# Altium schematic symbol library Oscillator.SchLib: 121 symbols (part 2 of 2)
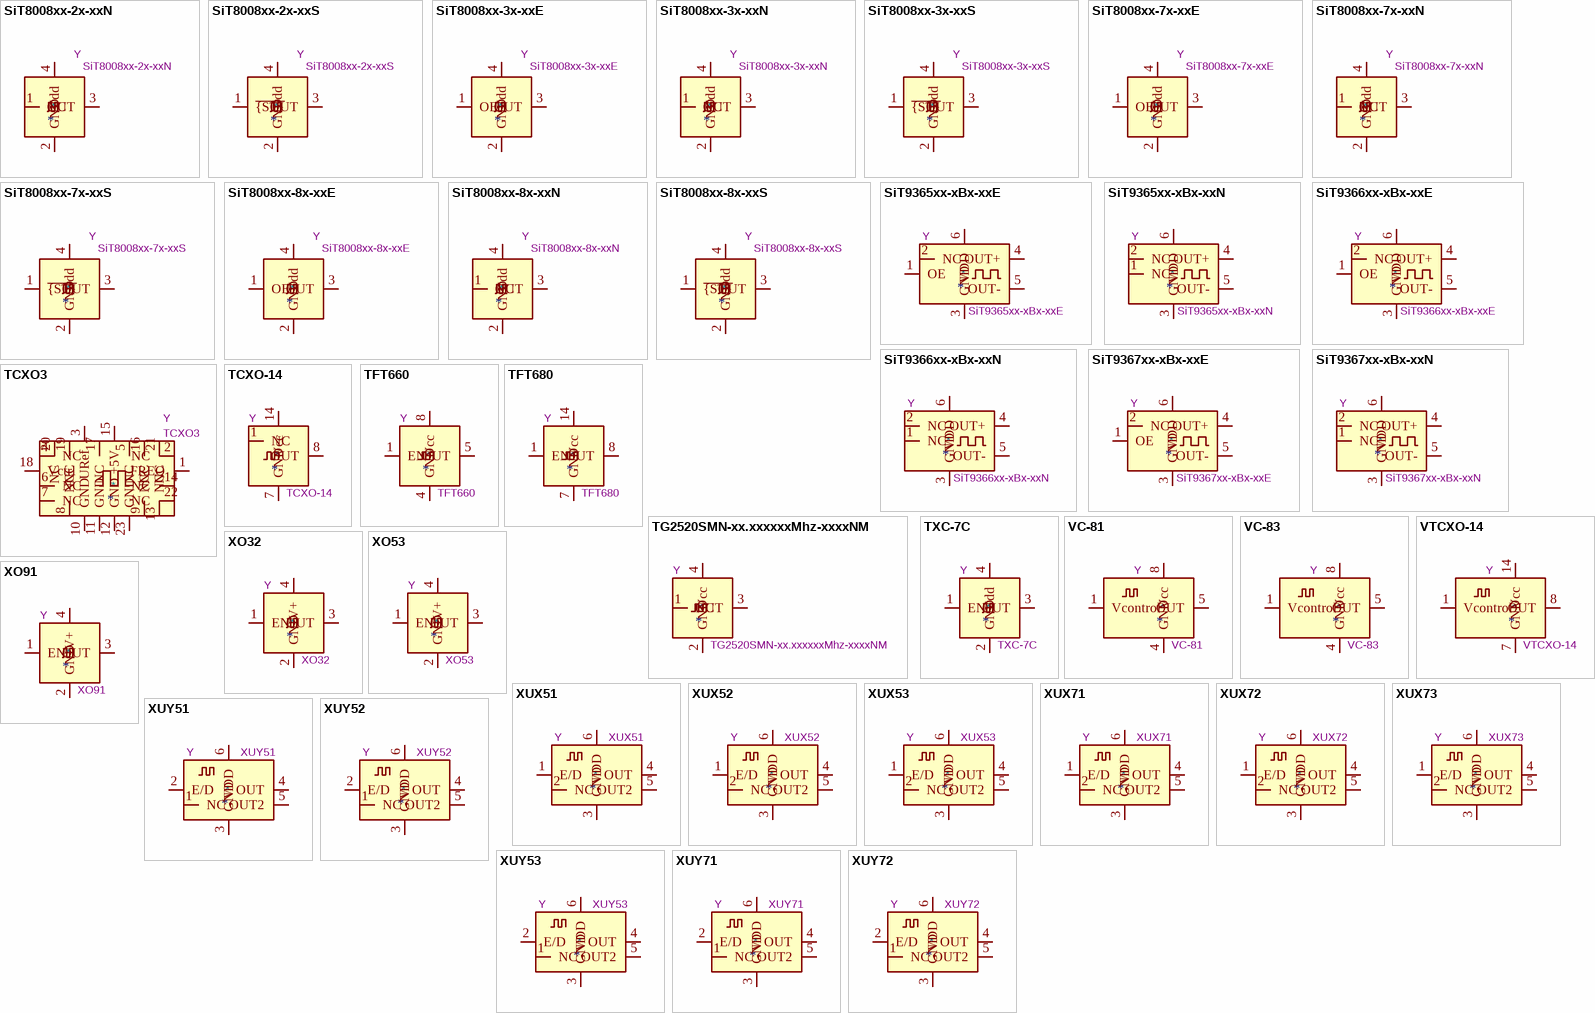
[diagram p4: symbols SiT8008xx-2x-xxN to XUY72]

## XO53
designator *  value XO53  Reference: Y
Low Power Consumption Clock Oscillator; ki_keywords: Crystal Clock Oscillator; ki_fp_filters: Oscillator*SMD*EuroQuartz*XO53*5.0x3.2mm*; Footprint: Oscillator:Oscillator_SMD_EuroQuartz_XO53-4Pin_5.0x3.2mm; Datasheet: http://cdn-reichelt.de/documents/datenblatt/B400/XO53.pdf; Description_: Low Power Consumption Clock Oscillator
pins: 1 EN, 2 GND, 3 OUT, 4 V+

## XO91
designator *  value XO91  Reference: Y
HCMOS Clock Oscillator; ki_keywords: Crystal Clock Oscillator; ki_fp_filters: Oscillator*SMD*EuroQuartz*XO91*7.0x5.0mm*; Footprint: Oscillator:Oscillator_SMD_EuroQuartz_XO91-4Pin_7.0x5.0mm; Datasheet: http://cdn-reichelt.de/documents/datenblatt/B400/XO91.pdf; Description_: HCMOS Clock Oscillator
pins: 1 EN, 2 GND, 3 OUT, 4 V+

## XUX51
designator *  value XUX51  Reference: Y
Low phase noise, quartz-based PLL oscillator, 0.016-1500 MHz, complementary output; ki_keywords: OTP XHCMOS 1.8V VCXO; ki_fp_filters: Oscillator*JS6*; Footprint: Oscillator:Oscillator_SMD_IDT_JS6-6_5.0x3.2mm_P1.27mm; Datasheet: https://www.renesas.com/us/en/document/dst/xu-family-low-phase-noise-quartz-based-pll-oscillators-datasheet; Description_: Low phase noise, quartz-based PLL oscillator, 0.016-1500 MHz, complementary output
pins: 1 E/D, 2 NC, 3 GND, 4 OUT, 5 OUT2, 6 VDD

## XUX52
designator *  value XUX52  Reference: Y
Low phase noise, quartz-based PLL oscillator, 0.016-1500 MHz, complementary output; ki_keywords: OTP XHCMOS 2.5V VCXO; ki_fp_filters: Oscillator*JS6*; Footprint: Oscillator:Oscillator_SMD_IDT_JS6-6_5.0x3.2mm_P1.27mm; Datasheet: https://www.renesas.com/us/en/document/dst/xu-family-low-phase-noise-quartz-based-pll-oscillators-datasheet; Description_: Low phase noise, quartz-based PLL oscillator, 0.016-1500 MHz, complementary output
pins: 1 E/D, 2 NC, 3 GND, 4 OUT, 5 OUT2, 6 VDD

## XUX53
designator *  value XUX53  Reference: Y
Low phase noise, quartz-based PLL oscillator, 0.016-1500 MHz, complementary output; ki_keywords: OTP XHCMOS 3.3V VCXO; ki_fp_filters: Oscillator*JS6*; Footprint: Oscillator:Oscillator_SMD_IDT_JS6-6_5.0x3.2mm_P1.27mm; Datasheet: https://www.renesas.com/us/en/document/dst/xu-family-low-phase-noise-quartz-based-pll-oscillators-datasheet; Description_: Low phase noise, quartz-based PLL oscillator, 0.016-1500 MHz, complementary output
pins: 1 E/D, 2 NC, 3 GND, 4 OUT, 5 OUT2, 6 VDD

## XUX71
designator *  value XUX71  Reference: Y
Low phase noise, quartz-based PLL oscillator, 0.016-1500 MHz, complementary output; ki_keywords: OTP XHCMOS 1.8V VCXO; ki_fp_filters: Oscillator*JU6*; Footprint: Oscillator:Oscillator_SMD_IDT_JU6-6_7.0x5.0mm_P2.54mm; Datasheet: https://www.renesas.com/us/en/document/dst/xu-family-low-phase-noise-quartz-based-pll-oscillators-datasheet; Description_: Low phase noise, quartz-based PLL oscillator, 0.016-1500 MHz, complementary output
pins: 1 E/D, 2 NC, 3 GND, 4 OUT, 5 OUT2, 6 VDD

## XUX72
designator *  value XUX72  Reference: Y
Low phase noise, quartz-based PLL oscillator, 0.016-1500 MHz, complementary output; ki_keywords: OTP XHCMOS 2.5V VCXO; ki_fp_filters: Oscillator*JU6*; Footprint: Oscillator:Oscillator_SMD_IDT_JU6-6_7.0x5.0mm_P2.54mm; Datasheet: https://www.renesas.com/us/en/document/dst/xu-family-low-phase-noise-quartz-based-pll-oscillators-datasheet; Description_: Low phase noise, quartz-based PLL oscillator, 0.016-1500 MHz, complementary output
pins: 1 E/D, 2 NC, 3 GND, 4 OUT, 5 OUT2, 6 VDD

## XUX73
designator *  value XUX73  Reference: Y
Low phase noise, quartz-based PLL oscillator, 0.016-1500 MHz, complementary output; ki_keywords: OTP XHCMOS 3.3V VCXO; ki_fp_filters: Oscillator*JU6*; Footprint: Oscillator:Oscillator_SMD_IDT_JU6-6_7.0x5.0mm_P2.54mm; Datasheet: https://www.renesas.com/us/en/document/dst/xu-family-low-phase-noise-quartz-based-pll-oscillators-datasheet; Description_: Low phase noise, quartz-based PLL oscillator, 0.016-1500 MHz, complementary output
pins: 1 E/D, 2 NC, 3 GND, 4 OUT, 5 OUT2, 6 VDD

## XUY51
designator *  value XUY51  Reference: Y
Low phase noise, quartz-based PLL oscillator, 0.016-1500 MHz, complementary output; ki_keywords: OTP HCMOS 1.8V VCXO; ki_fp_filters: Oscillator*JS6*; Footprint: Oscillator:Oscillator_SMD_IDT_JS6-6_5.0x3.2mm_P1.27mm; Datasheet: https://www.renesas.com/us/en/document/dst/xu-family-low-phase-noise-quartz-based-pll-oscillators-datasheet; Description_: Low phase noise, quartz-based PLL oscillator, 0.016-1500 MHz, complementary output
pins: 1 NC, 2 E/D, 3 GND, 4 OUT, 5 OUT2, 6 VDD

## XUY52
designator *  value XUY52  Reference: Y
Low phase noise, quartz-based PLL oscillator, 0.016-1500 MHz, complementary output; ki_keywords: OTP XHCMOS 2.5V VCXO; ki_fp_filters: Oscillator*JS6*; Footprint: Oscillator:Oscillator_SMD_IDT_JS6-6_5.0x3.2mm_P1.27mm; Datasheet: https://www.renesas.com/us/en/document/dst/xu-family-low-phase-noise-quartz-based-pll-oscillators-datasheet; Description_: Low phase noise, quartz-based PLL oscillator, 0.016-1500 MHz, complementary output
pins: 1 NC, 2 E/D, 3 GND, 4 OUT, 5 OUT2, 6 VDD

## XUY53
designator *  value XUY53  Reference: Y
Low phase noise, quartz-based PLL oscillator, 0.016-1500 MHz, complementary output; ki_keywords: OTP XHCMOS 3.3V VCXO; ki_fp_filters: Oscillator*JS6*; Footprint: Oscillator:Oscillator_SMD_IDT_JS6-6_5.0x3.2mm_P1.27mm; Datasheet: https://www.renesas.com/us/en/document/dst/xu-family-low-phase-noise-quartz-based-pll-oscillators-datasheet; Description_: Low phase noise, quartz-based PLL oscillator, 0.016-1500 MHz, complementary output
pins: 1 NC, 2 E/D, 3 GND, 4 OUT, 5 OUT2, 6 VDD

## XUY71
designator *  value XUY71  Reference: Y
Low phase noise, quartz-based PLL oscillator, 0.016-1500 MHz, complementary output; ki_keywords: OTP HCMOS 1.8V VCXO; ki_fp_filters: Oscillator*JU6*; Footprint: Oscillator:Oscillator_SMD_IDT_JU6-6_7.0x5.0mm_P2.54mm; Datasheet: https://www.renesas.com/us/en/document/dst/xu-family-low-phase-noise-quartz-based-pll-oscillators-datasheet; Description_: Low phase noise, quartz-based PLL oscillator, 0.016-1500 MHz, complementary output
pins: 1 NC, 2 E/D, 3 GND, 4 OUT, 5 OUT2, 6 VDD

## XUY72
designator *  value XUY72  Reference: Y
Low phase noise, quartz-based PLL oscillator, 0.016-1500 MHz, complementary output; ki_keywords: OTP XHCMOS 2.5V VCXO; ki_fp_filters: Oscillator*JU6*; Footprint: Oscillator:Oscillator_SMD_IDT_JU6-6_7.0x5.0mm_P2.54mm; Datasheet: https://www.renesas.com/us/en/document/dst/xu-family-low-phase-noise-quartz-based-pll-oscillators-datasheet; Description_: Low phase noise, quartz-based PLL oscillator, 0.016-1500 MHz, complementary output
pins: 1 NC, 2 E/D, 3 GND, 4 OUT, 5 OUT2, 6 VDD

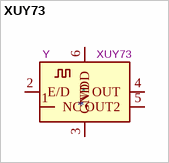
[diagram p3: symbol XUY73]

## XUY73
designator *  value XUY73  Reference: Y
Low phase noise, quartz-based PLL oscillator, 0.016-1500 MHz, complementary output; ki_keywords: OTP XHCMOS 3.3V VCXO; ki_fp_filters: Oscillator*JU6*; Footprint: Oscillator:Oscillator_SMD_IDT_JU6-6_7.0x5.0mm_P2.54mm; Datasheet: https://www.renesas.com/us/en/document/dst/xu-family-low-phase-noise-quartz-based-pll-oscillators-datasheet; Description_: Low phase noise, quartz-based PLL oscillator, 0.016-1500 MHz, complementary output
pins: 1 NC, 2 E/D, 3 GND, 4 OUT, 5 OUT2, 6 VDD